# EAGLE library part IRF7353D2 (library X893)
http://www.irf.com/product-info/datasheets/data/irf7353d2.pdf
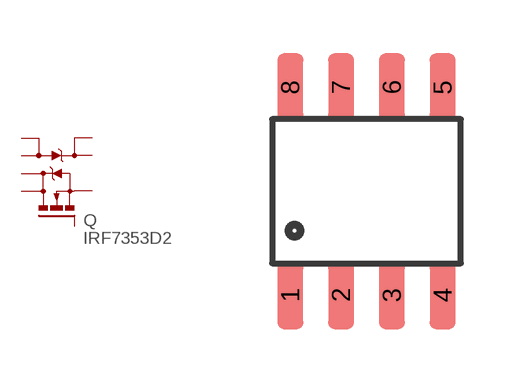
[diagram p80: symbol with the pads of SO08; footprint SO08]

Designator prefix Q

## IRF7353D2  [SO08]
1  A  pas
2  A  pas
3  S  pas
4  G  pas
5  D  pas
6  D  pas
7  K  pas
8  K  pas

## Footprint SO08 (pad centres in mm)
Small Outline Package Fits JEDEC packages (narrow SOIC-8)
smd 0.65 x 1.7: 1 -1.905,-2.6; 2 -0.635,-2.6; 3 0.635,-2.6; 4 1.905,-2.6; 5 1.905,2.6; 6 0.635,2.6; 7 -0.635,2.6; 8 -1.905,2.6